# Altium footprint library USB-hub.PcbLib: 9 footprints
Each footprint in its own frame and in the unit in brackets; x right, y up, seen from the top. Pads: shape width x height; smd on the part's side, far side on the other; paste and mask are expansions set on the pad; w line width, h text height; cw(c..) or ccw(c..) is an arc to the next point about the centre after c.
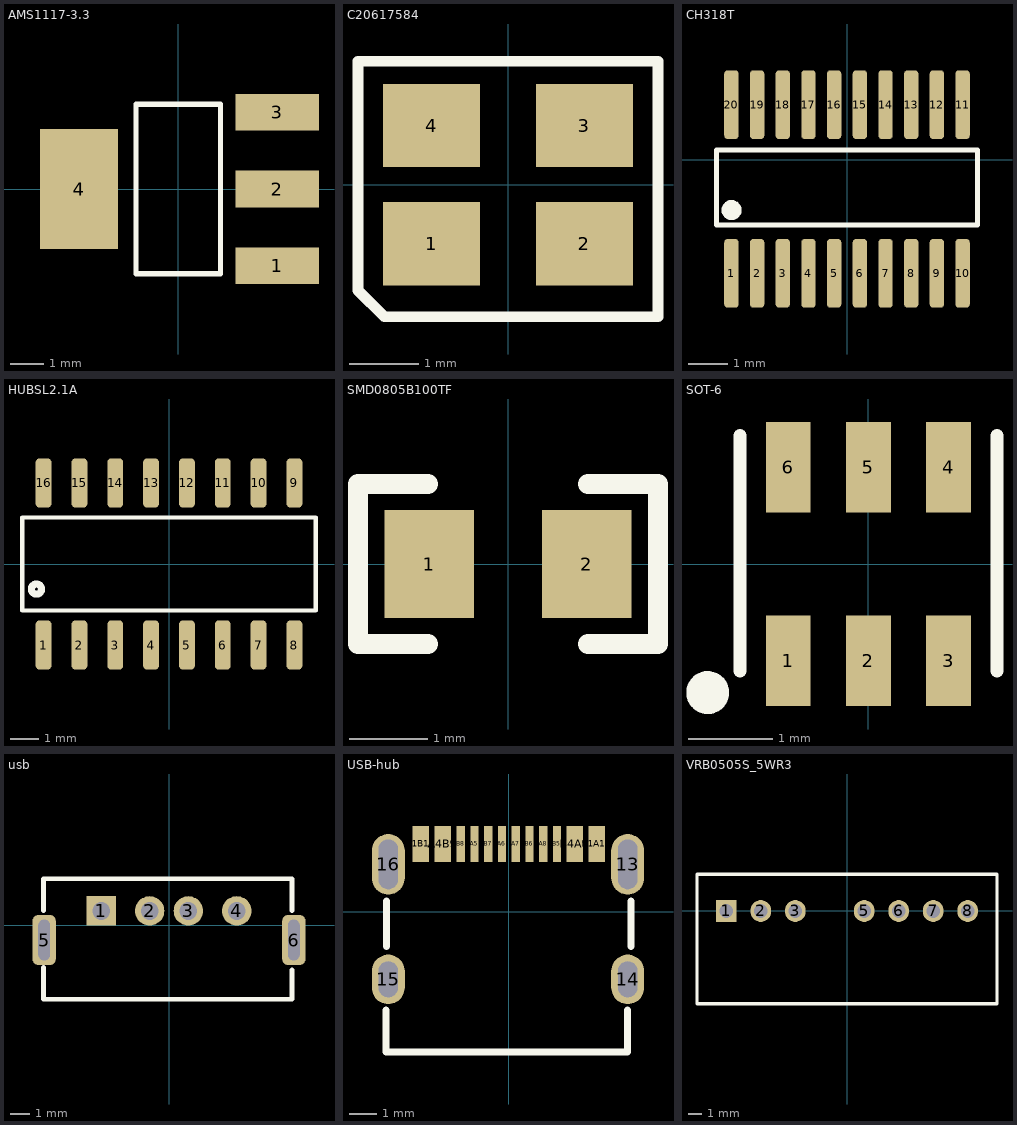
[diagram p0: the footprints below, top view; thin cyan lines are the x and y axes]

## AMS1117-3.3 [mm]
pads (4):
  rect 2.5x1.1 smd: 1(2.97,-2.3) 2(2.97,0) 3(2.97,2.3)
  rect 2.34x3.6 smd: 4(-2.97,0)
Top Overlay:
  lines w0.152: -1.27,-2.54 -1.27,2.54 1.27,2.54 1.27,-2.54 -1.27,-2.54

## C20617584 [mm]
pads (4):
  rect 1.4x1.2 smd: 1(-1.1,-0.85) 2(1.1,-0.85) 3(1.1,0.85) 4(-1.1,0.85)
Top Overlay:
  lines w0.152: -2.159,-1.524 -2.159,1.778 2.159,1.778 2.159,-1.905 -1.778,-1.905 -2.159,-1.524

## CH318T [mm]
pads (20):
  rrect50% 0.364x1.742 smd: 1(-2.925,-2.871) 2(-2.275,-2.871) 3(-1.625,-2.871) 4(-0.975,-2.871) 5(-0.325,-2.871) 6(0.325,-2.871) 7(0.975,-2.871) 8(1.625,-2.871) 9(2.275,-2.871) 10(2.925,-2.871) 11(2.925,1.397) 12(2.275,1.397) 13(1.625,1.397) 14(0.975,1.397) 15(0.325,1.397) 16(-0.325,1.397) 17(-0.975,1.397) 18(-1.625,1.397) 19(-2.275,1.397) 20(-2.925,1.397)
Top Overlay:
  circle w0.254: c-2.921,-1.27 r0.127
  lines w0.127: -3.302,-1.651 3.302,-1.651 3.302,0.254 -3.302,0.254 -3.302,-1.651

## HUBSL2.1A [mm]
pads (16):
  rrect50% 0.56x1.745 smd: 1(-4.445,-2.872) 2(-3.175,-2.872) 3(-1.905,-2.872) 4(-0.635,-2.872) 5(0.635,-2.872) 6(1.905,-2.872) 7(3.175,-2.872) 8(4.445,-2.872) 9(4.445,2.872) 10(3.175,2.872) 11(1.905,2.872) 12(0.635,2.872) 13(-0.635,2.872) 14(-1.905,2.872) 15(-3.175,2.872) 16(-4.445,2.872)
Top Overlay:
  circle w0.254: c-4.699,-0.889 r0.18
  lines w0.152: -5.207,-1.651 5.207,-1.651 5.207,1.651 -5.207,1.651 -5.207,-1.651

## SMD0805B100TF [mm]
pads (2):
  rect 1.133x1.377 smd: 1(-1,0) 2(1,0)
Top Overlay:
  lines w0.254: -1.016,-1.016 -1.905,-1.016 -1.905,1.016 -1.016,1.016 ; 1.016,-1.016 1.905,-1.016 1.905,1.016 1.016,1.016

## SOT-6 [mm]
pads (6):
  rect 0.532x1.072 smd: 1(-0.95,-1.149) 2(0,-1.149) 3(0.95,-1.149) 4(0.95,1.149) 5(0,1.149) 6(-0.95,1.149)
Top Overlay:
  circle w0.254: c-1.905,-1.524 r0.127
  lines w0.152: -1.524,-1.27 -1.524,1.524 ; 1.524,-1.27 1.524,1.524

## usb [mm]
pads (6):
  rect 1.524x1.524 hole 0.914: 1(-3.5,0.751)
  round 1.524 hole 0.914: 2(-1.001,0.751) 3(1.001,0.751) 4(3.5,0.751)
  rrect50% 1.2x2.6 hole 0.6 slot 2.1 at 90 deg: 5(-6.449,-0.751) 6(6.449,-0.751)
Top Overlay:
  lines w0.254: -6.477,-2.159 -6.477,-3.81 6.35,-3.81 6.35,-2.286 ; -6.477,0.762 -6.477,2.413 6.35,2.413 6.35,0.762

## USB-hub [mm]
pads (16):
  oval 1.2x2.2 hole 0.7 slot 1.8 at 90 deg: 13(4.32,1.719) 16(-4.379,1.719)
  oval 1.2x1.8 hole 0.7 slot 1.3 at 90 deg: 14(4.32,-2.461) 15(-4.379,-2.461)
  rect 0.6x1.3 smd: A1B12(-3.2,2.461) A4B9(-2.4,2.461) B1A12(3.2,2.461) B4A9(2.4,2.461)
  rect 0.3x1.3 smd: A5(-1.25,2.461) A6(-0.25,2.461) A7(0.25,2.461) A8(1.25,2.461) B5(1.75,2.461) B6(0.75,2.461) B7(-0.75,2.461) B8(-1.75,2.461)
Top Overlay:
  lines w0.254: -4.47,-3.579 -4.47,-5.1 4.318,-5.1 4.318,-3.579 ; -4.445,-1.27 -4.445,0.381 ; 4.445,-1.27 4.445,0.381

## VRB0505S_5WR3 [mm]
pads (7):
  rect 1.524x1.6 hole 1: 1(-8.89,0)
  oval 1.524x1.6 hole 1: 2(-6.35,0) 3(-3.81,0) 5(1.27,0) 6(3.81,0) 7(6.35,0) 8(8.89,0)
Top Overlay:
  lines w0.254: -11.049,-6.825 -11.049,2.7 11.049,2.7 11.049,-6.825 -11.049,-6.825